# EAGLE library part CS4334 (library dooba)
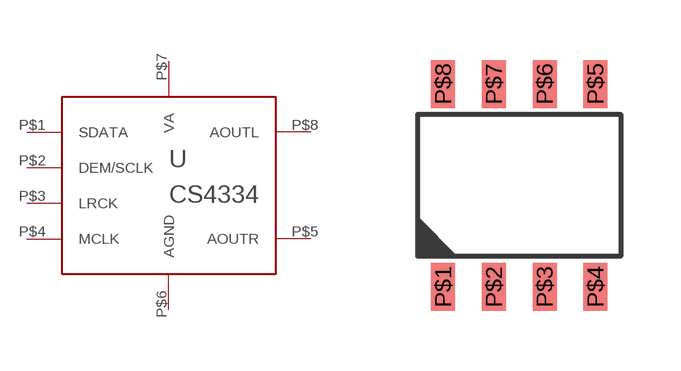
[diagram p25: symbol with the pads of SO8; footprint SO8]

Designator prefix U

## CS4334  [SO8]
P$1  SDATA
P$2  DEM/SCLK
P$3  LRCK
P$4  MCLK
P$5  AOUTR
P$6  AGND
P$7  VA
P$8  AOUTL

## Footprint SO8 (pad centres in mm)
smd 0.6 x 1.2: P$1 -1.905,-2.54; P$2 -0.635,-2.54; P$3 0.635,-2.54; P$4 1.905,-2.54; P$5 1.905,2.54; P$6 0.635,2.54; P$7 -0.635,2.54; P$8 -1.905,2.54